# Altium footprint library controller_V1.1.PcbLib: 56 footprints (part 4 of 4)
Each footprint in its own frame and in the unit in brackets; x right, y up, seen from the top. Pads: shape width x height; smd on the part's side, far side on the other; paste and mask are expansions set on the pad; w line width, h text height; cw(c..) or ccw(c..) is an arc to the next point about the centre after c.
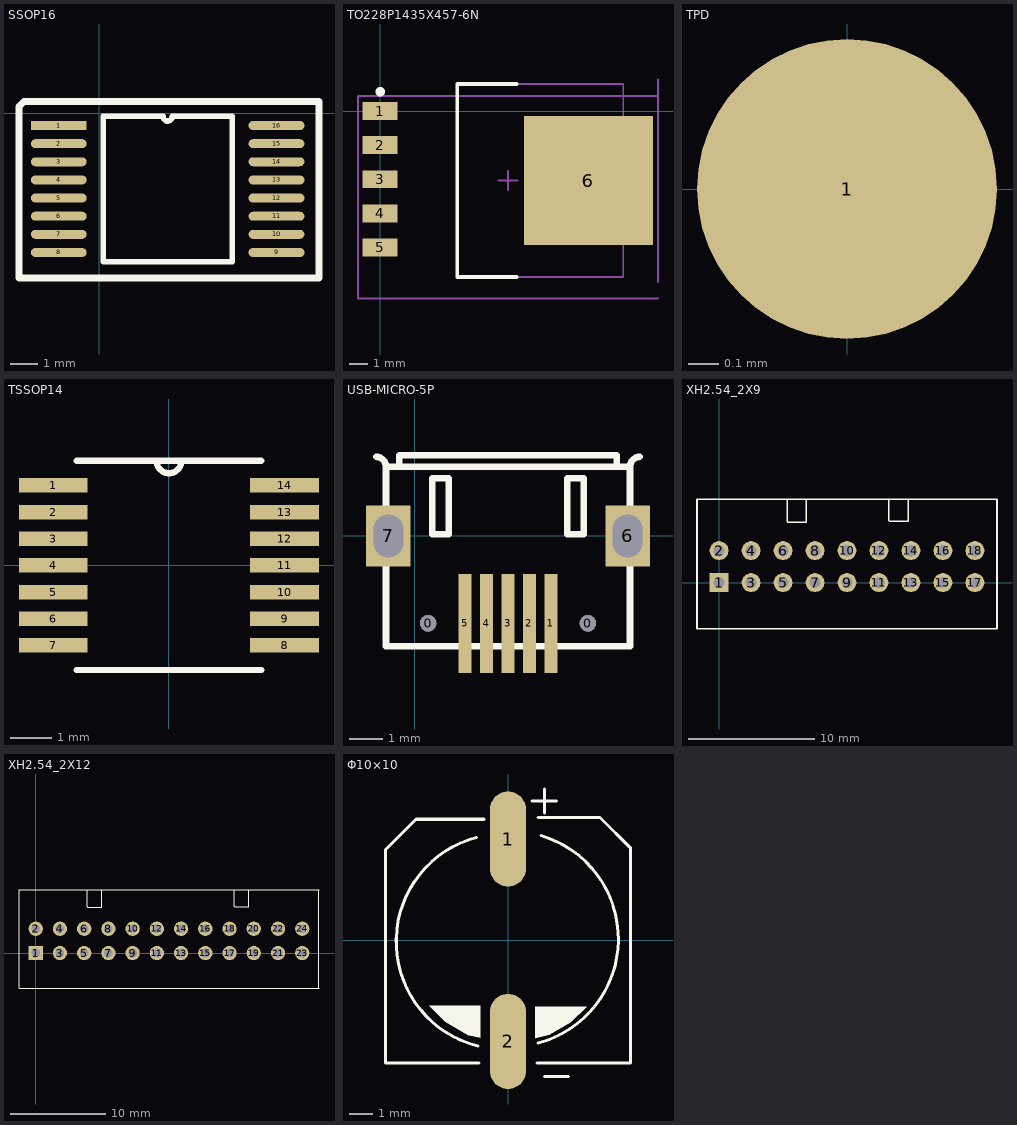
[diagram p3: the footprints below, top view; thin cyan lines are the x and y axes]

## SSOP16 [mm] "SOP, 16-Leads, Body 5.1x4.5mm (max), Pitch 0.65mm, IPC Medium Density"
height 0.6
pads (16):
  rect 2x0.32 smd: 1(-1.448,-0.432)
  oval 2x0.32 smd: 2(-1.448,-1.082) 3(-1.448,-1.732) 4(-1.448,-2.382) 5(-1.448,-3.032) 6(-1.448,-3.682) 7(-1.448,-4.332) 8(-1.448,-4.982) 9(6.352,-4.982) 10(6.352,-4.332) 11(6.352,-3.682) 12(6.352,-3.032) 13(6.352,-2.382) 14(6.352,-1.732) 15(6.352,-1.082) 16(6.352,-0.432)
Top Overlay:
  lines w0.2: 0.137,-5.307 4.767,-5.307 4.767,-0.107 2.615,-0.107 cw(c2.452,-0.107) 2.29,-0.107 0.137,-0.107 0.137,-5.307
  lines w0.254: -2.875,-5.9 -2.875,0.25 -2.7,0.425 7.875,0.425 7.875,-5.9 -2.875,-5.9

## TO228P1435X457-6N [mm] "D2-PAK, 6-Pads, Body 8.6x10.2mm (max), IPC Medium Density"
height 4.57
pads (6):
  rect 1.85x0.95 smd: 1(0,0) 2(0,-1.8) 3(0,-3.6) 4(0,-5.4) 5(0,-7.2)
  rect 6.8x6.8 smd: 6(11,-3.671)
Top Overlay:
  circle w0.25: c0,1.025 r0.125
  lines w0.2: 7.2,-8.771 4.064,-8.771 4.064,1.429 7.2,1.429
Mechanical 13:
  lines w0.1: 4.064,-8.771 12.84,-8.771 12.84,1.429 4.064,1.429 4.064,-8.771
Mechanical 15:
  lines w0.1: 6.25,-3.671 7.25,-3.671 ; 6.75,-4.171 6.75,-3.171 ; 14.675,-9.91 -1.175,-9.91 -1.175,0.79 14.675,0.79 ; 14.675,-9.021 14.675,1.679
3D body: height 4.57, standoff 0.1, extent 4.2,-8.771 12.84,1.429

## TPD [mm]
height 1.4
pads (1):
  round 1 smd: 1(0,0)

## TSSOP14 [mil]
pads (14):
  rect 66x14 smd: 1(-111,76.77) 2(-111,51.18) 3(-111,25.59) 4(-111,0) 5(-111,-25.59) 6(-111,-51.18) 7(-111,-76.77) 8(111,-76.77) 9(111,-51.18) 10(111,-25.59) 11(111,0) 12(111,25.59) 13(111,51.18) 14(111,76.77)
Top Overlay:
  lines w6: -88.5,-100.5 88.5,-100.5 ; -88.5,100.5 88.5,100.5 ; -12,100.5 ccw(c0,100.5) 12,100.5

## USB-MICRO-5P [mm]
height 1
pads (9):
  round 0.5 hole 0.5 unplated: 0(0.4,-2.65) 0(5.25,-2.65)
  rect 0.4x3 smd: 1(4.125,-2.65) 2(3.475,-2.65) 3(2.825,-2.65) 4(2.175,-2.65) 5(1.525,-2.65)
  rect 1.35x1.85 hole 0.9 slot 1.3 at 90 deg: 6(6.45,0) 7(-0.8,0)
Top Overlay:
  lines w0.2: -1.175,2.4 cw(c-1.175,2.1) -0.875,2.1 6.525,2.1 cw(c6.825,2.1) 6.825,2.4 ; -0.875,2.15 -0.875,-3.35 6.525,-3.35 6.525,2.15 ; -0.475,2.1 -0.475,2.45 6.125,2.45 6.125,2.1 ; 0.525,0.05 0.525,1.75 1.025,1.75 1.025,0.05 0.525,0.05 ; 4.625,0.05 4.625,1.75 5.125,1.75 5.125,0.05 4.625,0.05
Bottom Overlay:
  lines w0.2: -1.175,-3.35 -1.175,2.45 6.825,2.45 6.825,-3.35 -1.175,-3.35

## XH2.54_2X9 [mm]
pads (18):
  rect 1.5x1.5 hole 0.9: 1(0,0)
  round 1.5 hole 0.9: 2(0,2.54) 3(2.54,0) 4(2.54,2.54) 5(5.08,0) 6(5.08,2.54) 7(7.62,0) 8(7.62,2.54) 9(10.16,0) 10(10.16,2.54) 11(12.7,0) 12(12.7,2.54) 13(15.24,0) 14(15.24,2.54) 15(17.78,0) 16(17.78,2.54) 17(20.32,0) 18(20.32,2.54)
Top Overlay:
  lines w0.127: 5.41,6.553 5.41,4.851 5.461,4.801 6.934,4.801 6.934,6.553 ; 13.487,6.629 13.487,4.928 13.538,4.877 15.011,4.877 15.011,6.629 ; -1.75,-3.68 -1.75,6.62 22.07,6.62 22.07,-3.68 -1.75,-3.68

## XH2.54_2X12 [mm]
pads (24):
  rect 1.5x1.5 hole 0.9: 1(0,0)
  round 1.5 hole 0.9: 2(0,2.54) 3(2.54,0) 4(2.54,2.54) 5(5.08,0) 6(5.08,2.54) 7(7.62,0) 8(7.62,2.54) 9(10.16,0) 10(10.16,2.54) 11(12.7,0) 12(12.7,2.54) 13(15.24,0) 14(15.24,2.54) 15(17.78,0) 16(17.78,2.54) 17(20.32,0) 18(20.32,2.54) 19(22.86,0) 20(22.86,2.54) 21(25.4,0) 22(25.4,2.54) 23(27.94,0) 24(27.94,2.54)
Top Overlay:
  lines w0.127: 5.41,6.553 5.41,4.851 5.461,4.801 6.934,4.801 6.934,6.553 ; 20.828,6.604 20.828,4.902 20.879,4.851 22.352,4.851 22.352,6.604 ; 29.69,-3.68 29.69,6.62 ; 29.693,-3.68 -1.75,-3.68 -1.75,6.62 29.693,6.62

## Φ10×10 [mm]
pads (2):
  oval 1.524x4 smd: 1(0,4.25) 2(0,-4.25)
Top Overlay:
  region: 1.143,-2.794 1.143,-4.115 2.464,-2.794
  region: 1.143,-4.115 2.464,-2.794 3.302,-2.794
  region: 3.302,-2.794 2.642,-3.454 2.222,-3.454
  region: 2.642,-3.454 2.235,-3.454 1.727,-3.962
  region: 1.727,-3.962 2.235,-3.454 1.803,-3.454 1.143,-4.115
  region: -1.156,-2.756 -1.156,-4.102 -2.502,-2.756
  region: -1.156,-4.102 -2.502,-2.756 -3.315,-2.756
  region: -2.235,-3.429 -2.642,-3.429 -3.315,-2.756
  region: -2.642,-3.429 -2.235,-3.429 -1.664,-4
  region: -1.664,-4 -2.235,-3.429 -1.829,-3.429 -1.156,-4.102
  lines w0.127: -5.15,3.81 -5.15,-5.15 -1.213,-5.15 ; -5.137,3.81 -3.867,5.08 -1.016,5.08 ; -1.33,4.314 ccw(c-0.173,-0.058) -1.27,-4.445 ; 1.016,5.842 2.032,5.842 ; 1.213,-5.15 5.15,-5.15 5.15,3.867 3.867,5.15 1.27,5.15 ; 1.27,-4.318 ccw(c0.113,0.054) 1.389,4.392 ; 1.524,-5.715 2.54,-5.715 ; 1.524,5.334 1.524,6.35